# EAGLE library part RT5760CHGH6F (library RT5760CHGH6F)
Switching Voltage Regulators 6V 1A, ACOT Buck Converter in Thin SOT-563 Package Source: Datasheet <https://www.mouser.com.tr/datasheet/2/1458/DS5760ABCD_04-3104683.pdf>
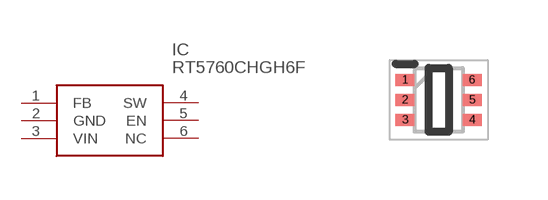
[diagram p0: symbol with the pads of SOTFL50P160X60-6N; footprint SOTFL50P160X60-6N]

Designator prefix IC

## RT5760CHGH6F (Description: Switching Voltage Regulators 6V 1A, ACOT Buck Converter in Thin SOT-563 Package; Height: 0.6mm; Manufacturer_Name: RICHTEK; Manufacturer_Part_Number: RT5760CHGH6F)  [SOTFL50P160X60-6N]
1  FB
2  GND
3  VIN
4  SW
5  EN
6  NC  nc

## Footprint SOTFL50P160X60-6N (pad centres in mm)
SOT-563 (FC)
smd 0.475 x 0.3: 1 -0.838,0.5; 2 -0.838,0; 3 -0.838,-0.5; 4 0.838,-0.5; 5 0.838,0; 6 0.838,0.5